# Altium footprint library 10_uf_100V_x7r_CAPC5750X330N.PcbLib: 1 footprints
Each footprint in its own frame and in the unit in brackets; x right, y up, seen from the top. Pads: shape width x height; smd on the part's side, far side on the other; paste and mask are expansions set on the pad; w line width, h text height; cw(c..) or ccw(c..) is an arc to the next point about the centre after c.
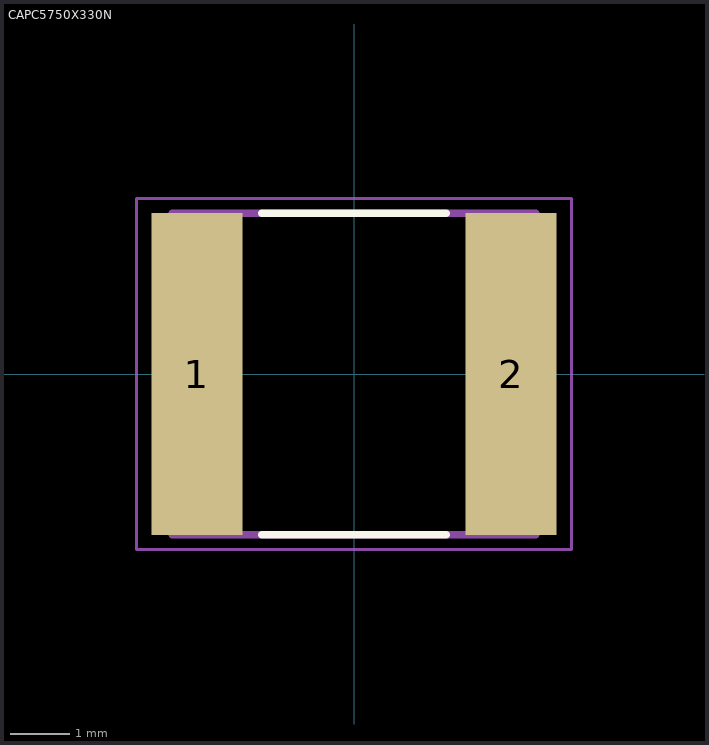
[diagram p0: the footprint, top view; thin cyan lines are the x and y axes]

## CAPC5750X330N [mm]
pads (2):
  rect 1.53x5.41 smd: 1(-2.639,0) 2(2.639,0)
Top Overlay:
  lines w0.127: -1.55,-2.7 1.55,-2.7 ; -1.55,2.7 1.55,2.7
Mechanical 13:
  lines w0.127: -3.05,-2.7 -3.05,2.7 3.05,2.7 3.05,-2.7 -3.05,-2.7
Mechanical 15:
  lines w0.05: -3.654,-2.95 -3.654,2.95 3.654,2.95 3.654,-2.95 -3.654,-2.95
3D body "step_temp.STEP": height 3.3, standoff 0, extent -2.85,-2.5 2.85,2.5